# EAGLE library part MOSFET-DUAL-P (library FaBo-Mosfet)
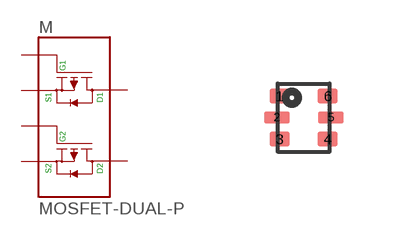
[diagram p2: symbol with the pads of SOT666; footprint SOT666]

Designator prefix M

## MOSFET-DUAL-P  [SOT666]
1  S1  pas
2  G1  pas
3  D2  pas
4  S2  pas
5  G2  pas
6  D1  pas

## Footprint SOT666 (pad centres in mm)
smd 0.5 x 0.375: 1 -0.6,0.538; 3 -0.6,-0.538; 4 0.6,-0.538; 6 0.6,0.538
smd 0.65 x 0.3: 2 -0.675,0; 5 0.675,0